# EAGLE library part ACOUSTICLIB_IS62WV256 (library LIBRARY)
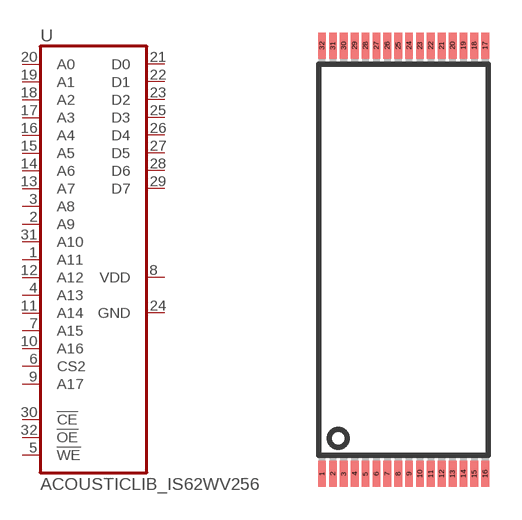
[diagram p1: symbol with the pads of ACOUSTICLIB_IS62WV256; footprint ACOUSTICLIB_IS62WV256]

Designator prefix -

## ACOUSTICLIB_IS62WV256  [ACOUSTICLIB_IS62WV256]
1  A11  in
2  A9  in
3  A8  in
4  A13  in
5  !WE  in
6  CS2  in
7  A15  in
8  VDD
9  A17  in
10  A16  in
11  A14  in
12  A12  in
13  A7  in
14  A6  in
15  A5  in
16  A4  in
17  A3  in
18  A2  in
19  A1  in
20  A0  in
21  D0  hiz
22  D1  hiz
23  D2  hiz
24  GND
25  D3  hiz
26  D4  hiz
27  D5  hiz
28  D6  hiz
29  D7  hiz
30  !CE  in
31  A10  in
32  !OE  in

## Footprint ACOUSTICLIB_IS62WV256 (pad centres in mm)
smd 0.36 x 1.2: 1 -3.75,-9.85; 2 -3.25,-9.85; 3 -2.75,-9.85; 4 -2.25,-9.85; 5 -1.75,-9.85; 6 -1.25,-9.85; 7 -0.75,-9.85; 8 -0.25,-9.85; 9 0.25,-9.85; 10 0.75,-9.85; 11 1.25,-9.85; 12 1.75,-9.85; 13 2.25,-9.85; 14 2.75,-9.85; 15 3.25,-9.85; 16 3.75,-9.85; 17 3.75,9.85; 18 3.25,9.85; 19 2.75,9.85; 20 2.25,9.85; 21 1.75,9.85; 22 1.25,9.85; 23 0.75,9.85; 24 0.25,9.85; 25 -0.25,9.85; 26 -0.75,9.85; 27 -1.25,9.85; 28 -1.75,9.85; 29 -2.25,9.85; 30 -2.75,9.85; 31 -3.25,9.85; 32 -3.75,9.85